# EAGLE library part FH12-40S-0.5SH (library magmeter)
Hirose 40-pin FPC connector, 0.5mm pitch, bottom contact
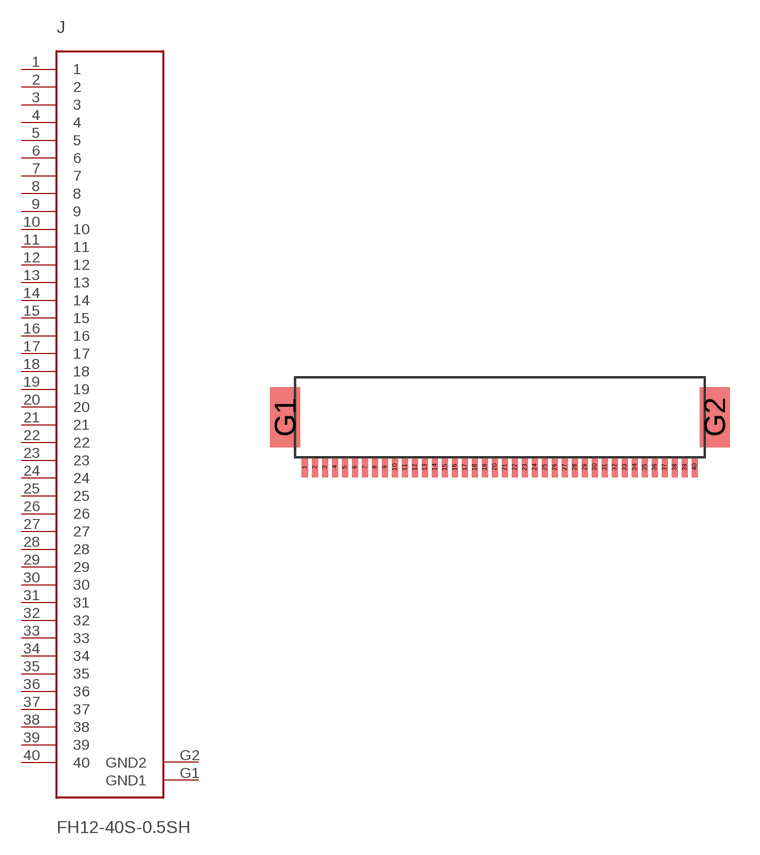
[diagram p3: symbol with the pads of FPC40-05; footprint FPC40-05]

Designator prefix J

## FH12-40S-0.5SH (MANUFACTURER: Hirose; MPN: FH12-40S-0.5SH(55))  [FPC40-05]
1  1
2  2
3  3
4  4
5  5
6  6
7  7
8  8
9  9
10  10
11  11
12  12
13  13
14  14
15  15
16  16
17  17
18  18
19  19
20  20
21  21
22  22
23  23
24  24
25  25
26  26
27  27
28  28
29  29
30  30
31  31
32  32
33  33
34  34
35  35
36  36
37  37
38  38
39  39
40  40
G1  GND1  pwr
G2  GND2  pwr

## Footprint FPC40-05 (pad centres in mm)
40-pin FPC connector, 0.5mm pitch, bottom contact
smd 0.3 x 1: 1 -9.75,-2.5; 2 -9.25,-2.5; 3 -8.75,-2.5; 4 -8.25,-2.5; 5 -7.75,-2.5; 6 -7.25,-2.5; 7 -6.75,-2.5; 8 -6.25,-2.5; 9 -5.75,-2.5; 10 -5.25,-2.5; 11 -4.75,-2.5; 12 -4.25,-2.5; 13 -3.75,-2.5; 14 -3.25,-2.5; 15 -2.75,-2.5; 16 -2.25,-2.5; 17 -1.75,-2.5; 18 -1.25,-2.5; 19 -0.75,-2.5; 20 -0.25,-2.5; 21 0.25,-2.5; 22 0.75,-2.5; 23 1.25,-2.5; 24 1.75,-2.5; 25 2.25,-2.5; 26 2.75,-2.5; 27 3.25,-2.5; 28 3.75,-2.5; 29 4.25,-2.5; 30 4.75,-2.5; 31 5.25,-2.5; 32 5.75,-2.5; 33 6.25,-2.5; 34 6.75,-2.5; 35 7.25,-2.5; 36 7.75,-2.5; 37 8.25,-2.5; 38 8.75,-2.5; 39 9.25,-2.5; 40 9.75,-2.5
smd 1.5 x 3: G1 -10.75,0; G2 10.75,0